# Altium schematic symbol library Maxim_Integrated_Digital_Potentiometers.SchLib: 2 symbols
Pins are listed as number, name and electrical type; pins without a type are passive.

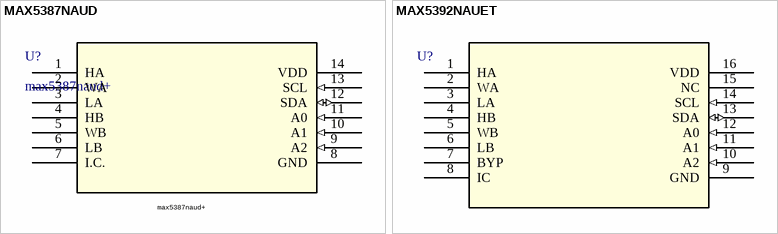
[diagram p0: symbols MAX5387NAUD to MAX5392NAUET]

## MAX5387NAUD
designator U?, comment max5387naud+
MAX5387NAUD+ 100K Ohm Digital Potentiometer; Vendor: MAXIM; Type: Type; Supplier 1: Octopart; Supplier 2: Octopart; Supplier 3: Octopart; Datasheet: https://www.maximintegrated.com/en/products/analog/data-converters/digital-potentiometers/MAX5387.html; Supplier Part Number 1: Mouser - 700-MAX5387NAUD+; Supplier Part Number 2: Digi-Key - MAX5387NAUD+-ND; Supplier Part Number 3: Newark - 73Y4889; RefDes: RefDes; Manufacturer_Part_Number: max5387naud+
footprint TSSOP_14
footprint TSSOP_14-L
footprint TSSOP_14-M
pins: 1 HA, 2 WA, 3 LA, 4 HB, 5 WB, 6 LB, 7 I.C., 8 GND (power), 9 A2 (in), 10 A1 (in), 11 A0 (in), 12 SDA (io), 13 SCL (in), 14 VDD (power)

## MAX5392NAUET
designator U?  (value not drawn)
MAX5392NAUE+T 100K Ohm Digital Potentiometer; Vendor: MAXIM; Manufacturer_Part_Number: MAX5392NAUE+T; Value: 100K; Address: *; Supplier 1: Digi-Key; Supplier Part Number 1: MAX5392NAUE+-ND; Datasheet: https://datasheets.maximintegrated.com/en/ds/MAX5392.pdf; Supplier 2: Mouser; Supplier Part Number 2: 700-MAX5392NAUE+
footprint TSSOP_16
footprint TSSOP_16-L
footprint TSSOP_16-M
pins: 1 HA, 2 WA, 3 LA, 4 HB, 5 WB, 6 LB, 7 BYP, 8 IC, 9 GND (power), 10 A2 (in), 11 A1 (in), 12 A0 (in), 13 SDA (io), 14 SCL (in), 15 NC, 16 VDD (power)